# Altium schematic symbol library INA215.Schlib: 1 symbol
Pins are listed as number, name and electrical type; pins without a type are passive.

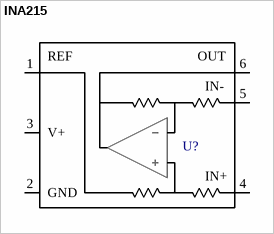
[diagram p0: symbol INA215]

## INA215
designator U?  (value not drawn)
Bidirectional Current Shunt Monitor
pins: 1 REF, 2 GND, 3 V+, 4 IN+, 5 IN-, 6 OUT